# EAGLE library part LMX9838 (library lmx9838)
Bluetooth Serial Port Module Manufacturer: National Semiconductor Source: http://www.national.com/mpf/LM/LMX9838.html
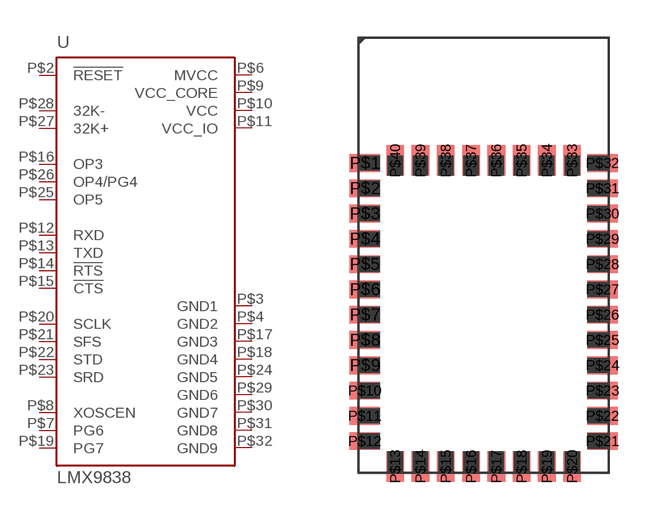
[diagram p0: symbol with the pads of LTCC70; footprint LTCC70]

Designator prefix -

## LMX9838  [LTCC70]
P$2  !RESET  in
P$3  GND1  pwr
P$4  GND2  pwr
P$6  MVCC  pwr
P$7  PG6
P$8  XOSCEN  out
P$9  VCC_CORE  pwr
P$10  VCC  pwr
P$11  VCC_IO  pwr
P$12  RXD  in
P$13  TXD  out
P$14  !RTS  out
P$15  !CTS  in
P$16  OP3  in
P$17  GND3  pwr
P$18  GND4  pwr
P$19  PG7
P$20  SCLK
P$21  SFS
P$22  STD  out
P$23  SRD  in
P$24  GND5  pwr
P$25  OP5
P$26  OP4/PG4
P$27  32K+  in
P$28  32K-  out
P$29  GND6  pwr
P$30  GND7  pwr
P$31  GND8  pwr
P$32  GND9  pwr

## Footprint LTCC70 (pad centres in mm)
LTCC SB70A 70 pins, 10mm x 17mm x 2.0mm
smd 1.2 x 0.7: P$1 -8.2,13; P$2 -8.2,12; P$3 -8.2,11; P$4 -8.2,10; P$5 -8.2,9; P$6 -8.2,8; P$7 -8.2,7; P$8 -8.2,6; P$9 -8.2,5; P$10 -8.2,4; P$11 -8.2,3; P$12 -8.2,2; P$21 1.2,2; P$22 1.2,3; P$23 1.2,4; P$24 1.2,5; P$25 1.2,6; P$26 1.2,7; P$27 1.2,8; P$28 1.2,9; P$29 1.2,10; P$30 1.2,11; P$31 1.2,12; P$32 1.2,13
smd 0.7 x 1.2: P$13 -7,1; P$14 -6,1; P$15 -5,1; P$16 -4,1; P$17 -3,1; P$18 -2,1; P$19 -1,1; P$20 0,1; P$33 0,13.1; P$34 -1,13.1; P$35 -2,13.1; P$36 -3,13.1; P$37 -4,13.1; P$38 -5,13.1; P$39 -6,13.1; P$40 -7,13.1